# Altium footprint library transistor.PcbLib: 3 footprints
Each footprint in its own frame and in the unit in brackets; x right, y up, seen from the top. Pads: shape width x height; smd on the part's side, far side on the other; paste and mask are expansions set on the pad; w line width, h text height; cw(c..) or ccw(c..) is an arc to the next point about the centre after c.
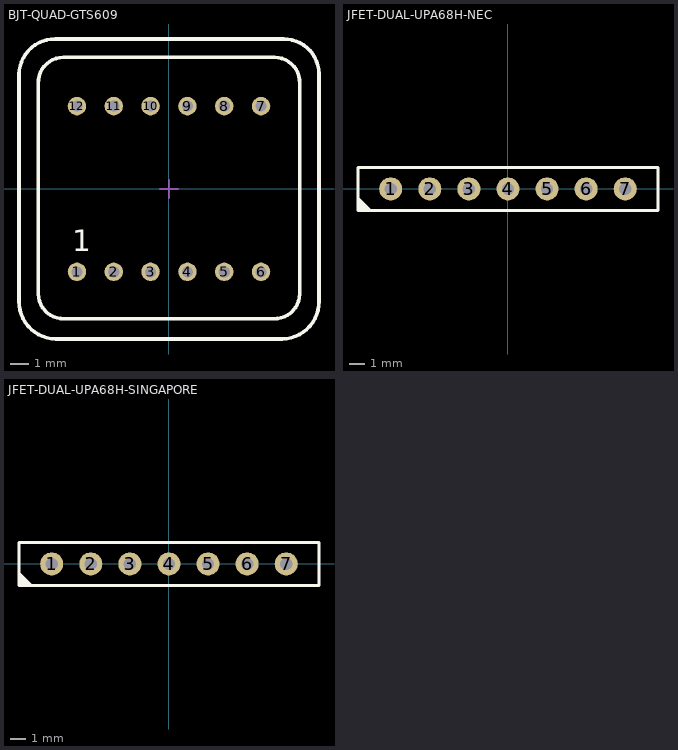
[diagram p0: the footprints below, top view; thin cyan lines are the x and y axes]

## BJT-QUAD-GTS609 [mm] "Quad BJT, Body 16.3x16.3mm"
height 13.5
pads (12):
  round 1 hole 0.6: 1(-5,-4.5) 2(-3,-4.5) 3(-1,-4.5) 4(1,-4.5) 5(3,-4.5) 6(5,-4.5) 7(5,4.5) 8(3,4.5) 9(1,4.5) 10(-1,4.5) 11(-3,4.5) 12(-5,4.5)
Top Overlay:
  lines w0.2: -8.146,-6.098 ccw(c-6.122,-6.125) -6.149,-8.149 6.15,-8.149 ccw(c6.123,-6.125) 8.147,-6.098 8.145,6.267 ccw(c6.24,6.241) 6.215,8.146 -6.172,8.146 ccw(c-6.198,6.198) -8.146,6.224 -8.146,-6.098 ; -7.1,-5.7 ccw(c-5.725,-5.675) -5.7,-7.05 5.7,-7.05 ccw(c5.725,-5.675) 7.1,-5.7 7.1,5.75 ccw(c5.725,5.775) 5.75,7.15 -5.75,7.15 ccw(c-5.725,5.775) -7.1,5.75 -7.1,-5.7
  text "1" at -5.25,-3.775 h2
Mechanical 1:
  lines w0.1: -8.146,-6.098 ccw(c-6.122,-6.125) -6.149,-8.149 6.15,-8.149 ccw(c6.123,-6.125) 8.147,-6.098 8.145,6.267 ccw(c6.24,6.241) 6.215,8.146 -6.172,8.146 ccw(c-6.198,6.198) -8.146,6.224 -8.146,-6.098 ; -7.1,-5.7 ccw(c-5.725,-5.675) -5.7,-7.05 5.7,-7.05 ccw(c5.725,-5.675) 7.1,-5.7 7.1,5.75 ccw(c5.725,5.775) 5.75,7.15 -5.75,7.15 ccw(c-5.725,5.775) -7.1,5.75 -7.1,-5.7
  text "1" at -5.25,-3.775 h2
Mechanical 15:
  lines w0.1: -0.5,0 0,0 ; 0,-0.5 0,0 ; 0,0.5 0,0 ; 0.5,0 0,0 ; -8.146,-6.098 ccw(c-6.122,-6.125) -6.149,-8.149 6.15,-8.149 ccw(c6.123,-6.125) 8.147,-6.098 8.145,6.267 ccw(c6.24,6.241) 6.215,8.146 -6.172,8.146 ccw(c-6.198,6.198) -8.146,6.224 -8.146,-6.098
3D body "GTS609.STEP": height 6.01, standoff -7.5, extent -8.15,-8.15 8.15,8.15

## JFET-DUAL-UPA68H-NEC [mm] "SIP-7 Dual JFET, Body 19.5 x 2.8mm"
height 11.8
pads (7):
  round 1.5 hole 0.8: 1(-7.62,0) 2(-5.08,0) 3(-2.54,0) 4(0,0) 5(2.54,0) 6(5.08,0) 7(7.62,0)
Top Overlay:
  lines w0.2: -9.746,-1.05 -9.42,-1.376 ; -9.746,-0.9 -9.27,-1.376 ; -9.746,-0.775 -9.145,-1.376 ; -9.746,-0.6 -8.97,-1.376 -9.145,-1.376 ; -9.697,-1.231 -9.552,-1.376 -9.42,-1.376 ; -9.42,-1.376 -9.27,-1.376 ; -9.27,-1.376 -9.145,-1.376 ; -9.746,-1.406 -9.746,1.396 9.749,1.396 9.749,-1.406 -9.746,-1.406
Mechanical 1:
  lines w0.1: -9.744,-1.175 -9.518,-1.401 -9.418,-1.401 ; -9.744,-1.075 -9.418,-1.401 ; -9.744,-1 -9.343,-1.401 ; -9.744,-0.925 -9.268,-1.401 ; -9.744,-0.85 -9.193,-1.401 ; -9.744,-0.775 -9.118,-1.401 ; -9.744,-0.7 -9.043,-1.401 ; -9.744,-0.575 -8.918,-1.401 -9.043,-1.401 ; -9.74,-1.255 -9.592,-1.402 ; -9.418,-1.401 -9.343,-1.401 ; -9.343,-1.401 -9.268,-1.401 ; -9.268,-1.401 -9.193,-1.401 ; -9.193,-1.401 -9.118,-1.401 ; -9.118,-1.401 -9.043,-1.401 ; -9.744,-1.407 9.748,-1.407 9.748,1.394 -9.744,1.394 -9.744,-1.407
Mechanical 15:
  lines w0.1: -0.5,0 0,0 ; 0,-0.5 0,0 ; 0,0.5 0,0 ; 0.5,0 0,0 ; -9.741,-1.407 -9.741,1.394 9.75,1.394 9.75,-1.407 -9.741,-1.407
3D body "UPA68HA-NEC.STEP": height 8.5, standoff -3.3, extent -9.75,-1.41 9.75,1.4

## JFET-DUAL-UPA68H-SINGAPORE [mm] "SIP-7 Dual JFET, Body 19.5 x 2.8mm"
height 9
pads (7):
  round 1.5 hole 0.8: 1(-7.62,0) 2(-5.08,0) 3(-2.54,0) 4(0,0) 5(2.54,0) 6(5.08,0) 7(7.62,0)
Top Overlay:
  lines w0.2: -9.746,-1.05 -9.42,-1.376 ; -9.746,-0.9 -9.27,-1.376 ; -9.746,-0.775 -9.145,-1.376 ; -9.746,-0.6 -8.97,-1.376 -9.145,-1.376 ; -9.697,-1.231 -9.552,-1.376 -9.42,-1.376 ; -9.42,-1.376 -9.27,-1.376 ; -9.27,-1.376 -9.145,-1.376 ; -9.746,-1.406 9.749,-1.406 9.749,1.396 -9.746,1.396 -9.746,-1.406
Mechanical 1:
  lines w0.1: -9.744,-1.175 -9.518,-1.401 -9.418,-1.401 ; -9.744,-1.075 -9.418,-1.401 ; -9.744,-1 -9.343,-1.401 ; -9.744,-0.925 -9.268,-1.401 ; -9.744,-0.85 -9.193,-1.401 ; -9.744,-0.775 -9.118,-1.401 ; -9.744,-0.7 -9.043,-1.401 ; -9.744,-0.575 -8.918,-1.401 -9.043,-1.401 ; -9.74,-1.255 -9.592,-1.402 ; -9.418,-1.401 -9.343,-1.401 ; -9.343,-1.401 -9.268,-1.401 ; -9.268,-1.401 -9.193,-1.401 ; -9.193,-1.401 -9.118,-1.401 ; -9.118,-1.401 -9.043,-1.401 ; -9.744,-1.407 -9.744,1.394 9.748,1.394 9.748,-1.407 -9.744,-1.407
Mechanical 15:
  lines w0.1: -0.5,0 0,0 ; 0,-0.5 0,0 ; 0,0.5 0,0 ; 0.5,0 0,0 ; -9.741,-1.407 9.75,-1.407 9.75,1.394 -9.741,1.394 -9.741,-1.407
3D body "UPA68HA-SINGAPORE.STEP": height 5.7, standoff -3.3, extent -9.75,-1.41 9.75,1.4